# Altium footprint library 其他.PcbLib: 13 footprints
Each footprint in its own frame and in the unit in brackets; x right, y up, seen from the top. Pads: shape width x height; smd on the part's side, far side on the other; paste and mask are expansions set on the pad; w line width, h text height; cw(c..) or ccw(c..) is an arc to the next point about the centre after c.
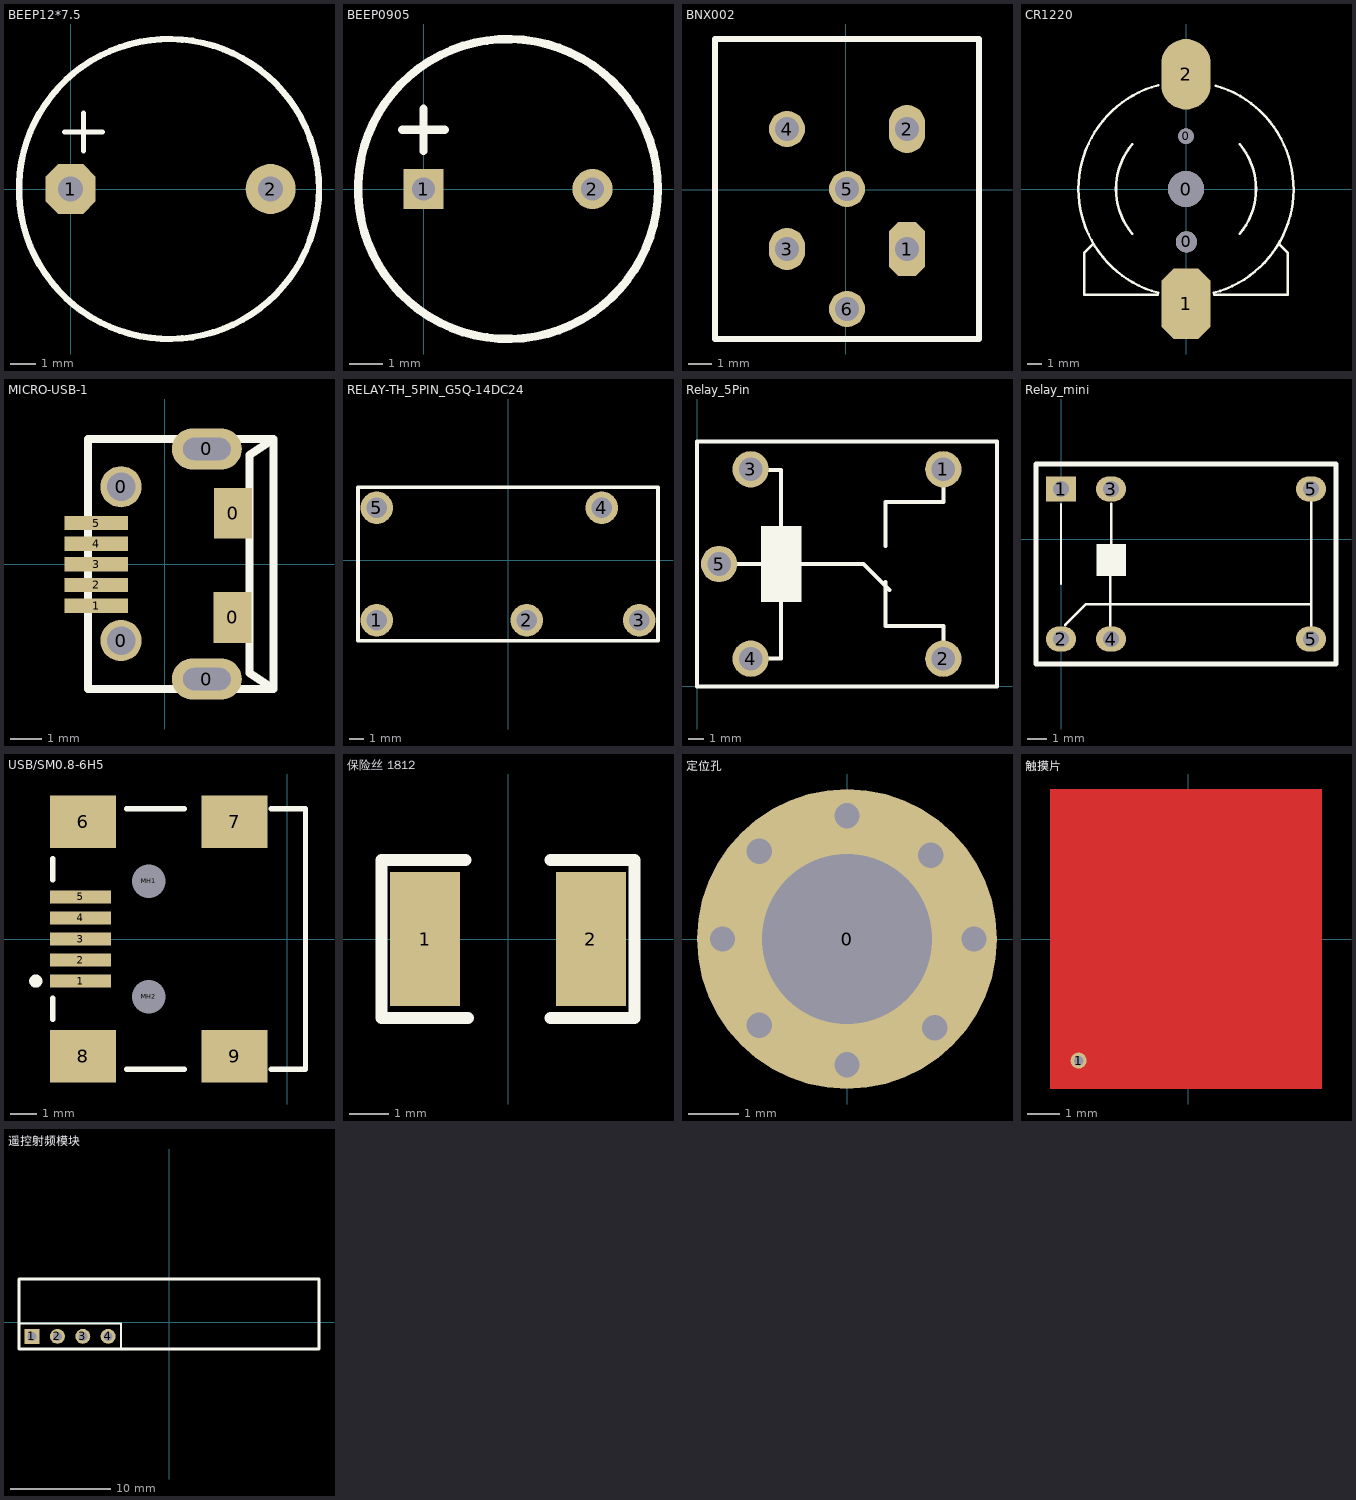
[diagram p0: the footprints below, top view; thin cyan lines are the x and y axes]

## BEEP12*7.5 [mm]
pads (2):
  oct 2x2 hole 1: 1(0,0)
  round 2 hole 1: 2(8,0)
Top Overlay:
  circle w0.254: c3.932,0 r6
  lines w0.203: -0.254,2.286 1.27,2.286 ; 0.508,1.524 0.508,3.048

## BEEP0905 [mm]
pads (2):
  rect 1.2x1.2 hole 0.7: 1(0,0)
  round 1.2 hole 0.7: 2(5.08,0)
Top Overlay:
  circle w0.254: c2.54,0 r4.51
  lines w0.254: -0.635,1.778 0.635,1.778 ; 0,1.143 0,2.413

## BNX002 [mil]
pads (6):
  oct 60x90 hole 40: 1(102,-99)
  oval 60x80 hole 40: 2(102,101)
  oval 60x70 hole 40: 3(-98,-99)
  round 60 hole 40: 4(-98,101) 5(2,1) 6(2,-199)
Top Overlay:
  lines w10: -218,-249 -218,251 222,251 222,-249 -218,-249

## CR1220 [mm] "钮扣电池"
height 3
pads (5):
  round 2.54 hole 2.54: 0(0,0)
  round 1.1 hole 1.1: 0(0,3.75)
  round 1.5 hole 1.5: 0(0.025,-3.75)
  oct 3.5x5 smd: 1(0,-8.128)
  oval 3.5x5 smd: 2(0,8.128)
Top Overlay:
  lines w0.178: -6.6,-3.9 -7.2,-4.5 -7.2,-7.5 -2,-7.5 ; -3.815,-3.169 cw(c0,0) -3.812,3.172 ; -1.963,-7.363 cw(c0,0) -7.62,0 cw(c0,0) -1.963,7.363 ; 1.963,-7.363 ccw(c0,0) 2.093,7.327 ; 2,-7.5 7.2,-7.5 7.2,-4.5 6.625,-3.925 ; 3.81,-3.175 ccw(c0,0) 3.812,3.172

## MICRO-USB-1 [mm]
pads (11):
  round 1.3 hole 0.9: 0(-1.371,-2.41) 0(-1.371,2.431)
  oval 2.2x1.3 hole 0.7 slot 1.5 at 0 deg: 0(1.329,-3.62) 0(1.329,3.62)
  rect 1.2x1.6 smd mask+0.102: 0(2.14,-1.683) 0(2.156,1.596)
  rect 2x0.45 smd: 1(-2.156,-1.31) 2(-2.156,-0.66) 3(-2.156,-0.01)
  rect 2x0.45 smd mask+0.102: 4(-2.156,0.64) 5(-2.156,1.29)
Top Overlay:
  lines w0.254: 3.429,-3.937 2.667,-3.429 2.667,3.429 3.429,3.937 ; 3.429,-3.937 3.429,3.937 ; 3.429,-3.937 -2.413,-3.937 -2.413,3.937 3.429,3.937

## RELAY-TH_5PIN_G5Q-14DC24 [mm]
pads (5):
  round 2.2 hole 1.4 mask+0.102: 1(-8.89,-4.064) 2(1.27,-4.064) 3(8.89,-4.064) 4(6.35,3.556) 5(-8.89,3.556)
Top Overlay:
  lines w0.254: -10.16,-5.461 -10.16,4.953 10.16,4.953 10.16,-5.461 -10.16,-5.461

## Relay_5Pin [mm]
pads (5):
  round 2.3 hole 1.5: 1(15.6,13.75) 2(15.6,1.75) 3(3.4,13.75) 4(3.4,1.75) 5(1.4,7.75)
Top Overlay:
  rectangle: 4.064,5.334 6.604,10.16
  lines w0.254: 1.4,7.75 10.538,7.75 12.192,6.096 ; 3.4,1.75 5.334,1.75 5.334,13.716 3.556,13.716 ; 11.938,6.61 11.938,3.816 15.6,3.816 15.6,1.75 ; 11.938,8.89 11.938,11.684 15.6,11.684 15.6,13.75 ; 0,0 19,0 19,15.5 0,15.5 0,0

## Relay_mini [mil]
pads (6):
  rect 60x50 hole 32: 1(0,100)
  oval 60x50 hole 32: 2(0,-200) 3(100,100) 4(100,-200) 5(500,-200) 5(500,100)
Top Overlay:
  region: 130,-10 71,-10 71,-74 130,-74
  lines w3.94: 0,-90 0,70
  lines w5: 8,-172 50,-130 479,-130 500,-130 ; 98,-175 98,-129 98,-72 ; 100,-10 100,30 100,71 ; 500,-177 500,-20 500,80
  lines w10: -50,-250 430,-250 550,-250 550,150 30,150 -50,150 -50,-250

## USB/SM0.8-6H5 [mm]
pads (11):
  rect 2.3x0.5 smd: 1(-7.85,-1.6) 2(-7.85,-0.8) 3(-7.85,0) 4(-7.85,0.8) 5(-7.85,1.6)
  rect 2.5x2 smd: 6(-7.75,4.45) 7(-1.996,4.45) 8(-7.75,-4.45) 9(-1.996,-4.45)
  round 0.6 hole 1.27 unplated: MH1(-5.25,2.2) MH2(-5.25,-2.2)
Top Overlay:
  circle w0.25: c-9.55,-1.6 r0.125
  lines w0.2: -8.9,-3.05 -8.9,-2.25 ; -8.9,2.25 -8.9,3.05 ; -6.1,-4.95 -3.9,-4.95 ; -6.1,4.95 -3.9,4.95 ; -0.6,-4.95 0.7,-4.95 0.7,4.95 -0.6,4.95

## 保险丝 1812 [mm]
pads (2):
  rect 1.778x3.4 smd: 1(-2.1,0) 2(2.1,0)
Top Overlay:
  lines w0.305: -1.079,2 -3.2,2 -3.2,-2 -1.01,-2 ; 1.079,-2 3.2,-2 3.2,2 1.079,2

## 定位孔 [mm]
pads (1):
  round 6 hole 3.4: 0(0,0)
via -1.753,-1.727 diameter 0.889 hole 0.508
via 0,-2.515 diameter 0.889 hole 0.508
via 1.753,-1.778 diameter 0.889 hole 0.508
via 2.54,0 diameter 0.889 hole 0.508
via 1.676,1.676 diameter 0.889 hole 0.508
via -1.753,1.753 diameter 0.889 hole 0.508
via -2.489,0 diameter 0.889 hole 0.508
via 0,2.464 diameter 0.889 hole 0.508

## 触摸片 [mm]
pads (1):
  round 0.5 hole 0.3: 1(-3.429,-3.81)
Top Layer:
  rectangle: -4.318,-4.699 4.191,4.699

## 遥控射频模块 [mm]
pads (4):
  rect 1.5x1.5 hole 0.9: 1(-13.716,-1.397)
  round 1.5 hole 0.9: 2(-11.176,-1.397) 3(-8.636,-1.397) 4(-6.096,-1.397)
Top Overlay:
  lines w0.2: -14.986,-2.667 -4.826,-2.667 -4.826,-0.127 -14.986,-0.127 -14.986,-2.667
  lines w0.254: -15.014,-2.667 14.986,-2.667 14.986,4.333 -15.014,4.333 -15.014,-2.667